# Altium schematic symbol library PowerIntegrationsG.SchLib: 2 symbols
Pins are listed as number, name and electrical type; pins without a type are passive.

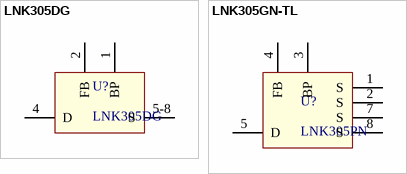
[diagram p0: symbols LNK305DG to LNK305GN-TL]

## LNK305DG
designator U?
footprint SO-8C (SOIC, 8-Leads, Body 4.9x3.9mm, Pitch 1.27mm, IPC Medium Density)
pins: 1 BP, 2 FB, 4 D, 5 S, 6 S, 7 S, 8 S
text: 5-8

## LNK305GN-TL
designator U?, comment LNK305PN
footprint DIP-8 (DIP, 8-Pin, Row Spacing 7.62 mm, Pitch 2.54 mm)
footprint DIP-8 (DIP, 8-Pin, Row Spacing 7.62 mm, Pitch 2.54 mm)
pins: 1 S, 2 S, 3 BP, 4 FB, 5 D, 7 S, 8 S